# EAGLE library part AD5689 (library noah)
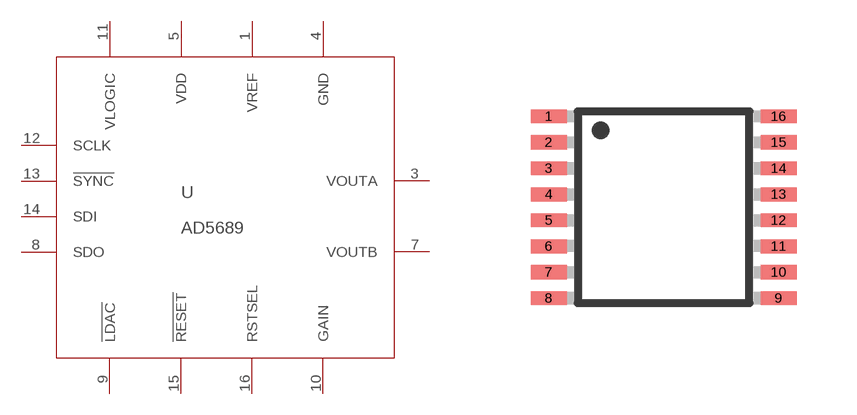
[diagram p35: symbol with the pads of TSSOP16; footprint TSSOP16]

Designator prefix U

## AD5689  [TSSOP16]
1  VREF
3  VOUTA
4  GND
5  VDD
7  VOUTB
8  SDO
9  !LDAC
10  GAIN
11  VLOGIC
12  SCLK
13  !SYNC
14  SDI
15  !RESET
16  RSTSEL

## Footprint TSSOP16 (pad centres in mm)
16-Lead Thin Shrink Small Outline Package [TSSOP] (RU-16) Source: 8x ADG1408_1409.pdf
smd 0.9 x 0.35: 1 -2.875,2.275; 2 -2.875,1.625; 3 -2.875,0.975; 4 -2.875,0.325; 5 -2.875,-0.325; 6 -2.875,-0.975; 7 -2.875,-1.625; 8 -2.875,-2.275; 9 2.875,-2.275; 10 2.875,-1.625; 11 2.875,-0.975; 12 2.875,-0.325; 13 2.875,0.325; 14 2.875,0.975; 15 2.875,1.625; 16 2.875,2.275